# Altium footprint library Inductor_SMD.PcbLib: 587 footprints (part 20 of 37)
Each footprint in its own frame and in the unit in brackets; x right, y up, seen from the top. Pads: shape width x height; smd on the part's side, far side on the other; paste and mask are expansions set on the pad; w line width, h text height; cw(c..) or ccw(c..) is an arc to the next point about the centre after c.
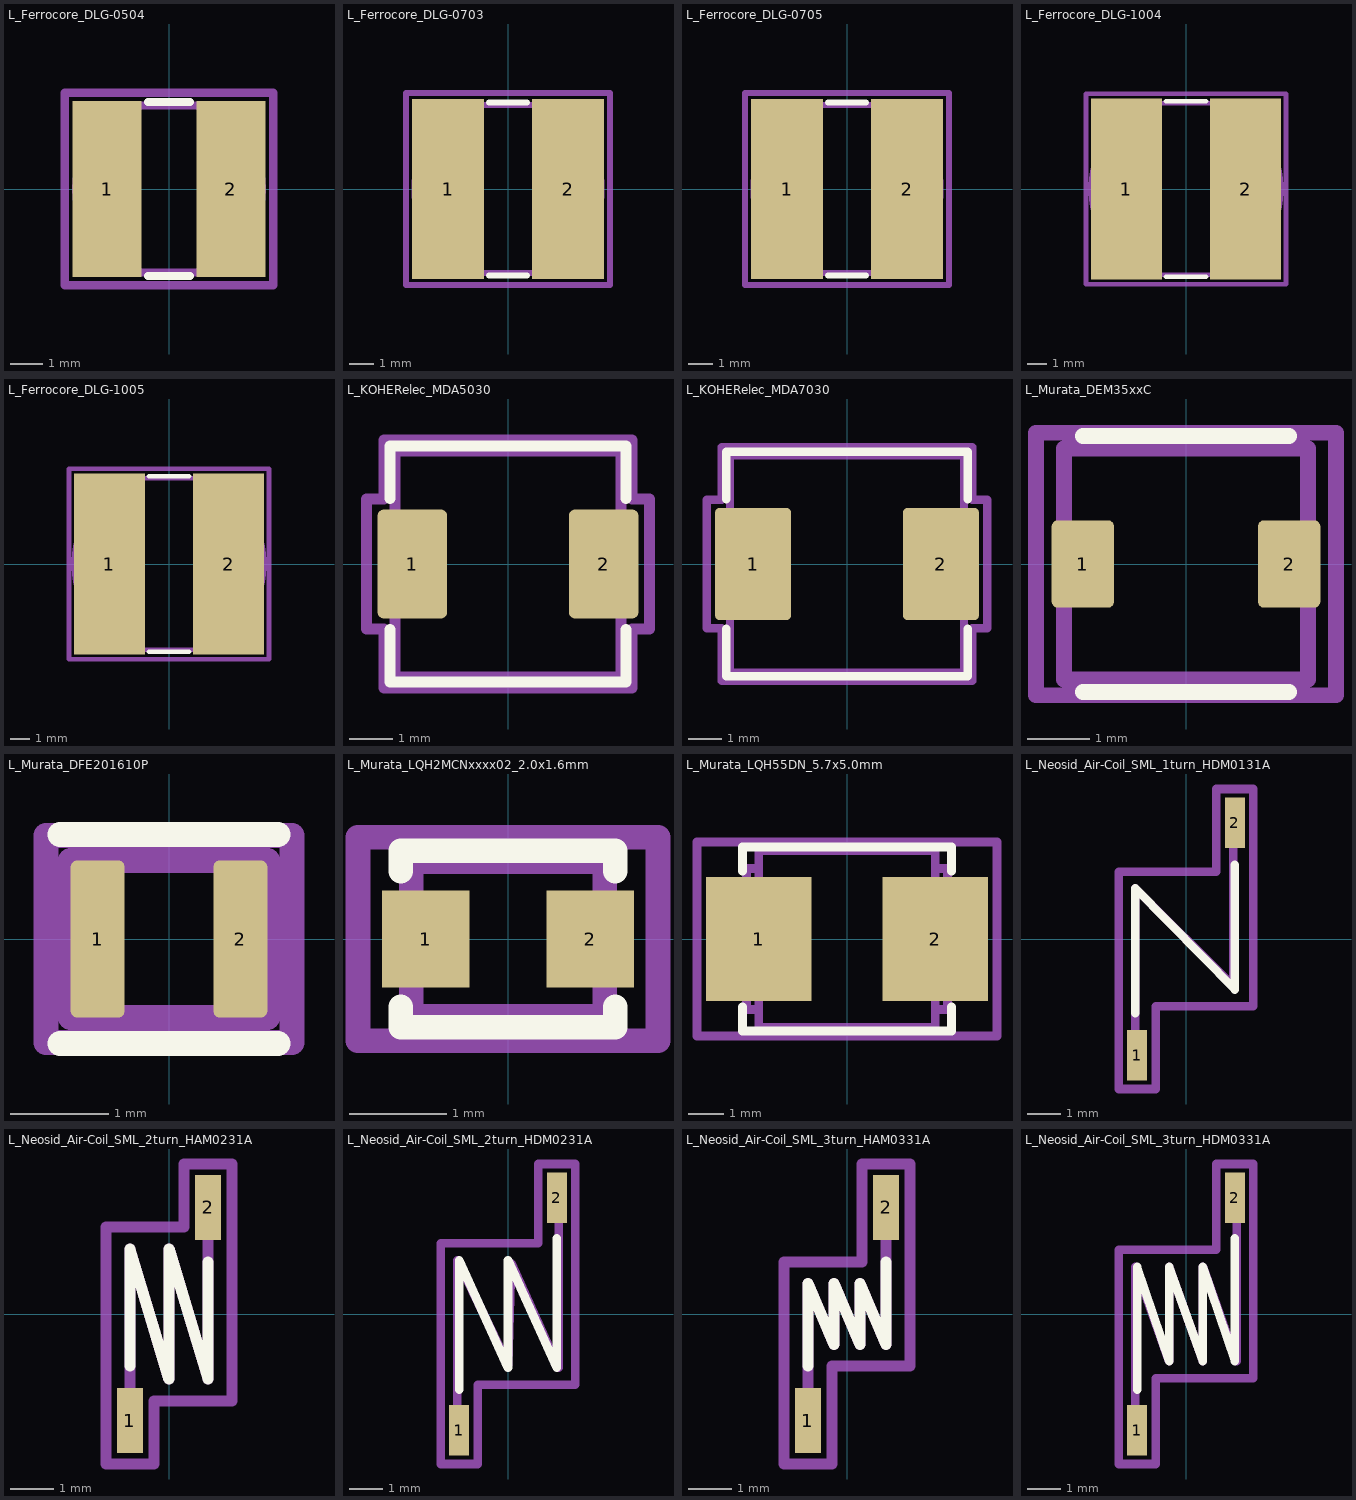
[diagram p19: the footprints below, top view; thin cyan lines are the x and y axes]

## L_Ferrocore_DLG-0504 [mm] "L_Ferrocore_DLG-0504"
pads (2):
  rect 2.15x5.5 smd: 1(-1.925,0) 2(1.925,0)
F.SilkS:
  lines w0.254: -0.65,-2.71 0.65,-2.71 ; -0.65,2.71 0.65,2.71
Top Assembly:
  lines w0.254: -0.85,-2.6 cw(c-0.226,0) -0.85,2.6 0.85,2.6 cw(c0.226,0) 0.85,-2.6 -0.85,-2.6
  text "'.Designator'" at -4.047,-0.84 h1
Top Courtyard:
  lines w0.254: -3.25,-3 3.25,-3 3.25,3 -3.25,3 -3.25,-3
Top Designator:
  text ".Designator" at -7.768,-0.508 h1.52

## L_Ferrocore_DLG-0703 [mm] "L_Ferrocore_DLG-0703"
pads (2):
  rect 3x7.5 smd: 1(-2.5,0) 2(2.5,0)
F.SilkS:
  lines w0.254: -0.8,-3.61 0.8,-3.61 ; -0.8,3.61 0.8,3.61
Top Assembly:
  lines w0.254: -1,-3.5 cw(c-0.338,0) -1,3.5 1,3.5 cw(c0.338,0) 1,-3.5 -1,-3.5
  text "'.Designator'" at -4.047,-0.84 h1
Top Courtyard:
  lines w0.254: -4.25,-4 4.25,-4 4.25,4 -4.25,4 -4.25,-4
Top Designator:
  text ".Designator" at -7.618,-0.508 h1.52

## L_Ferrocore_DLG-0705 [mm] "L_Ferrocore_DLG-0705"
pads (2):
  rect 3x7.5 smd: 1(-2.5,0) 2(2.5,0)
F.SilkS:
  lines w0.254: -0.8,-3.61 0.8,-3.61 ; -0.8,3.61 0.8,3.61
Top Assembly:
  lines w0.254: -1,-3.5 cw(c-0.338,0) -1,3.5 1,3.5 cw(c0.338,0) 1,-3.5 -1,-3.5
  text "'.Designator'" at -4.047,-0.84 h1
Top Courtyard:
  lines w0.254: -4.25,-4 4.25,-4 4.25,4 -4.25,4 -4.25,-4
Top Designator:
  text ".Designator" at -7.618,-0.508 h1.52

## L_Ferrocore_DLG-1004 [mm] "L_Ferrocore_DLG-1004"
pads (2):
  rect 3.75x9.5 smd: 1(-3.125,0) 2(3.125,0)
F.SilkS:
  lines w0.254: -1.05,-4.61 1.05,-4.61 ; -1.05,4.61 1.05,4.61
Top Assembly:
  lines w0.254: -1.25,-4.5 cw(c-0.425,0) -1.25,4.5 1.25,4.5 cw(c0.425,0) 1.25,-4.5 -1.25,-4.5
  text "'.Designator'" at -4.047,-0.84 h1
Top Courtyard:
  lines w0.254: -5.25,-5 -5.25,5 5.25,5 5.25,-5 -5.25,-5
Top Designator:
  text ".Designator" at -7.618,-0.508 h1.52

## L_Ferrocore_DLG-1005 [mm] "L_Ferrocore_DLG-1005"
pads (2):
  rect 3.75x9.5 smd: 1(-3.125,0) 2(3.125,0)
F.SilkS:
  lines w0.254: -1.05,-4.61 1.05,-4.61 ; -1.05,4.61 1.05,4.61
Top Assembly:
  lines w0.254: -1.25,-4.5 cw(c-0.425,0) -1.25,4.5 1.25,4.5 cw(c0.425,0) 1.25,-4.5 -1.25,-4.5
  text "'.Designator'" at -4.047,-0.84 h1
Top Courtyard:
  lines w0.254: -5.25,-5 -5.25,5 5.25,5 5.25,-5 -5.25,-5
Top Designator:
  text ".Designator" at -7.618,-0.508 h1.52

## L_KOHERelec_MDA5030 [mm] "L_KOHERelec_MDA5030"
pads (2):
  rrect16% 1.6x2.5 smd: 1(-2.2,0) 2(2.2,0)
F.SilkS:
  lines w0.254: -2.71,-1.51 -2.71,-2.71 2.71,-2.71 2.71,-1.51 ; -2.71,1.51 -2.71,2.71 2.71,2.71 2.71,1.51
Top Assembly:
  lines w0.254: -2.6,-2.6 2.6,-2.6 2.6,2.6 -2.6,2.6 -2.6,-2.6
  text "'.Designator'" at -4.047,-0.84 h1
Top Courtyard:
  lines w0.254: -3.25,-1.5 -2.85,-1.5 -2.85,-2.85 2.85,-2.85 2.85,-1.5 3.25,-1.5 3.25,1.5 2.85,1.5 2.85,2.85 -2.85,2.85 -2.85,1.5 -3.25,1.5 -3.25,-1.5
Top Designator:
  text ".Designator" at -7.768,-0.508 h1.52

## L_KOHERelec_MDA7030 [mm] "L_KOHERelec_MDA7030"
pads (2):
  rrect11% 2.3x3.4 smd: 1(-2.85,0) 2(2.85,0)
F.SilkS:
  lines w0.254: -3.66,-1.96 -3.66,-3.41 3.66,-3.41 3.66,-1.96 ; -3.66,1.96 -3.66,3.41 3.66,3.41 3.66,1.96
Top Assembly:
  lines w0.254: -3.55,-3.3 -3.55,3.3 3.55,3.3 3.55,-3.3 -3.55,-3.3
  text "'.Designator'" at -4.047,-0.84 h1
Top Courtyard:
  lines w0.254: -4.25,-1.95 -4.25,1.95 -3.8,1.95 -3.8,3.55 3.8,3.55 3.8,1.95 4.25,1.95 4.25,-1.95 3.8,-1.95 3.8,-3.55 -3.8,-3.55 -3.8,-1.95 -4.25,-1.95
Top Designator:
  text ".Designator" at -7.618,-0.508 h1.52

## L_Murata_DEM35xxC [mm] "L_Murata_DEM35xxC"
pads (2):
  rrect20% 1x1.4 smd: 1(-1.65,0) 2(1.65,0)
F.SilkS:
  lines w0.254: -1.65,-2.05 1.65,-2.05 ; -1.65,2.05 1.65,2.05
Top Assembly:
  lines w0.254: -1.95,-1.85 -1.95,1.85 1.95,1.85 1.95,-1.85 -1.95,-1.85
  text "'.Designator'" at -2.828,-0.583 h0.7
Top Courtyard:
  lines w0.254: -2.4,-2.1 -2.4,2.1 2.4,2.1 2.4,-2.1 -2.4,-2.1
Top Designator:
  text ".Designator" at -7.718,-0.508 h1.52

## L_Murata_DFE201610P [mm] "L_Murata_DFE201610P"
pads (2):
  rrect25% 0.55x1.6 smd: 1(-0.725,0) 2(0.725,0)
F.SilkS:
  lines w0.254: -1.11,-1.06 1.11,-1.06 ; -1.11,1.06 1.11,1.06
Top Assembly:
  lines w0.254: -1,-0.8 -1,0.8 1,0.8 1,-0.8 -1,-0.8
  text "'.Designator'" at -2.028,-0.425 h0.5
Top Courtyard:
  lines w0.254: -1.25,-1.05 -1.25,1.05 1.25,1.05 1.25,-1.05 -1.25,-1.05
Top Designator:
  text ".Designator" at -7.698,-0.508 h1.52

## L_Murata_LQH2MCNxxxx02_2.0x1.6mm [mm] "L_Murata_LQH2MCNxxxx02_2.0x1.6mm"
pads (2):
  rect 0.9x1 smd: 1(-0.85,0) 2(0.85,0)
F.SilkS:
  lines w0.254: -1.11,-0.7 -1.11,-0.91 1.11,-0.91 1.11,-0.7 ; -1.11,0.7 -1.11,0.91 1.11,0.91 1.11,0.7
Top Assembly:
  lines w0.254: -1,-0.8 1,-0.8 1,0.8 -1,0.8 -1,-0.8
  text "'.Designator'" at -1.619,-0.336 h0.4
Top Courtyard:
  lines w0.254: -1.55,-1.05 1.55,-1.05 1.55,1.05 -1.55,1.05 -1.55,-1.05
Top Designator:
  text ".Designator" at -7.618,-0.508 h1.52

## L_Murata_LQH55DN_5.7x5.0mm [mm] "L_Murata_LQH55DN_5.7x5.0mm"
pads (2):
  rect 3x3.5 smd: 1(-2.5,0) 2(2.5,0)
F.SilkS:
  lines w0.254: -2.96,-1.93 -2.96,-2.61 2.96,-2.61 2.96,-1.93 ; -2.96,1.93 -2.96,2.61 2.96,2.61 2.96,1.93
Top Assembly:
  lines w0.254: -2.5,-2 -2.85,-2 -2.85,2 -2.5,2 ; 2.5,-2 2.85,-2 2.85,2 2.5,2 ; -2.5,-2.5 2.5,-2.5 2.5,2.5 -2.5,2.5 -2.5,-2.5
  text "'.Designator'" at -4.047,-0.84 h1
Top Courtyard:
  lines w0.254: -4.25,-2.75 4.25,-2.75 4.25,2.75 -4.25,2.75 -4.25,-2.75
Top Designator:
  text ".Designator" at -7.618,-0.508 h1.52

## L_Neosid_Air-Coil_SML_1turn_HDM0131A [mm] "L_Neosid_Air-Coil_SML_1turn_HDM0131A"
pads (2):
  rect 0.6x1.5 smd: 1(-1.45,-3.45) 2(1.45,3.45)
F.SilkS:
  lines w0.254: -1.5,-2.2 -1.5,1.5 1.45,-1.5 1.45,2.2
Top Assembly:
  lines w0.254: -1.5,-3.4 -1.5,1.5 1.4,-1.4 1.4,3.5
  text "'.Designator'" at -2.883,-0.538 h0.7
Top Courtyard:
  lines w0.254: -2,-4.45 -2,2 0.9,2 0.9,4.45 2,4.45 2,-2 -0.9,-2 -0.9,-4.45 -2,-4.45
Top Designator:
  text ".Designator" at -7.773,-0.508 h1.52

## L_Neosid_Air-Coil_SML_2turn_HAM0231A [mm] "L_Neosid_Air-Coil_SML_2turn_HAM0231A"
pads (2):
  rect 0.6x1.5 smd: 1(-0.9,-2.45) 2(0.9,2.45)
F.SilkS:
  lines w0.254: -0.9,-1.2 -0.9,1.5 0,-1.5 0,1.5 0.9,-1.5 0.9,1.2
Top Assembly:
  lines w0.254: -0.9,-2.5 -0.9,1.5 0,-1.5 0,1.5 0.9,-1.5 0.9,2.5
  text "'.Designator'" at -2.023,-0.42 h0.5
Top Courtyard:
  lines w0.254: -1.45,-3.45 -1.45,2 0.35,2 0.35,3.45 1.45,3.45 1.45,-2 -0.35,-2 -0.35,-3.45 -1.45,-3.45
Top Designator:
  text ".Designator" at -7.693,-0.508 h1.52

## L_Neosid_Air-Coil_SML_2turn_HDM0231A [mm] "L_Neosid_Air-Coil_SML_2turn_HDM0231A"
pads (2):
  rect 0.6x1.5 smd: 1(-1.45,-3.45) 2(1.45,3.45)
F.SilkS:
  lines w0.254: -1.45,-2.25 -1.45,1.6 0,-1.6 0,1.6 1.45,-1.6 1.45,2.25
Top Assembly:
  lines w0.254: -1.5,-3.5 -1.5,1.6 0,-1.5 0.1,1.5 1.5,-1.6 1.5,3.6
  text "'.Designator'" at -2.833,-0.538 h0.7
Top Courtyard:
  lines w0.254: -2,-4.45 -2,2.1 0.9,2.1 0.9,4.45 2,4.45 2,-2.1 -0.9,-2.1 -0.9,-4.45 -2,-4.45
Top Designator:
  text ".Designator" at -7.723,-0.508 h1.52

## L_Neosid_Air-Coil_SML_3turn_HAM0331A [mm] "L_Neosid_Air-Coil_SML_3turn_HAM0331A"
pads (2):
  rect 0.6x1.5 smd: 1(-0.9,-2.45) 2(0.9,2.45)
F.SilkS:
  lines w0.254: -0.9,-1.2 -0.9,0.7 -0.3,-0.7 -0.3,0.7 0.3,-0.7 0.3,0.7 0.9,-0.7 0.9,1.2
Top Assembly:
  lines w0.254: -0.9,-2.6 -0.9,0.7 -0.3,-0.7 -0.3,0.7 0.3,-0.7 0.3,0.7 0.9,-0.7 0.9,2.6
  text "'.Designator'" at -2.023,-0.42 h0.5
Top Courtyard:
  lines w0.254: -1.45,-3.45 -0.35,-3.45 -0.35,-1.2 1.45,-1.2 1.45,3.45 0.35,3.45 0.35,1.2 -1.45,1.2 -1.45,-3.45
Top Designator:
  text ".Designator" at -7.693,-0.508 h1.52

## L_Neosid_Air-Coil_SML_3turn_HDM0331A [mm] "L_Neosid_Air-Coil_SML_3turn_HDM0331A"
pads (2):
  rect 0.6x1.5 smd: 1(-1.45,-3.45) 2(1.45,3.45)
F.SilkS:
  lines w0.254: -1.45,-2.25 -1.45,1.4 -0.5,-1.4 -0.5,1.4 0.5,-1.4 0.5,1.4 1.45,-1.4 1.45,2.25
Top Assembly:
  lines w0.254: -1.5,-3.5 -1.5,1.4 -0.5,-1.4 -0.5,1.4 0.5,-1.4 0.5,1.4 1.5,-1.4 1.5,3.5
  text "'.Designator'" at -2.833,-0.588 h0.7
Top Courtyard:
  lines w0.254: -2,-4.45 -0.9,-4.45 -0.9,-1.9 2,-1.9 2,4.45 0.9,4.45 0.9,1.9 -2,1.9 -2,-4.45
Top Designator:
  text ".Designator" at -7.723,-0.508 h1.52